# Altium footprint library Components_UNO.PcbLib: 25 footprints (part 2 of 2)
Each footprint in its own frame and in the unit in brackets; x right, y up, seen from the top. Pads: shape width x height; smd on the part's side, far side on the other; paste and mask are expansions set on the pad; w line width, h text height; cw(c..) or ccw(c..) is an arc to the next point about the centre after c.
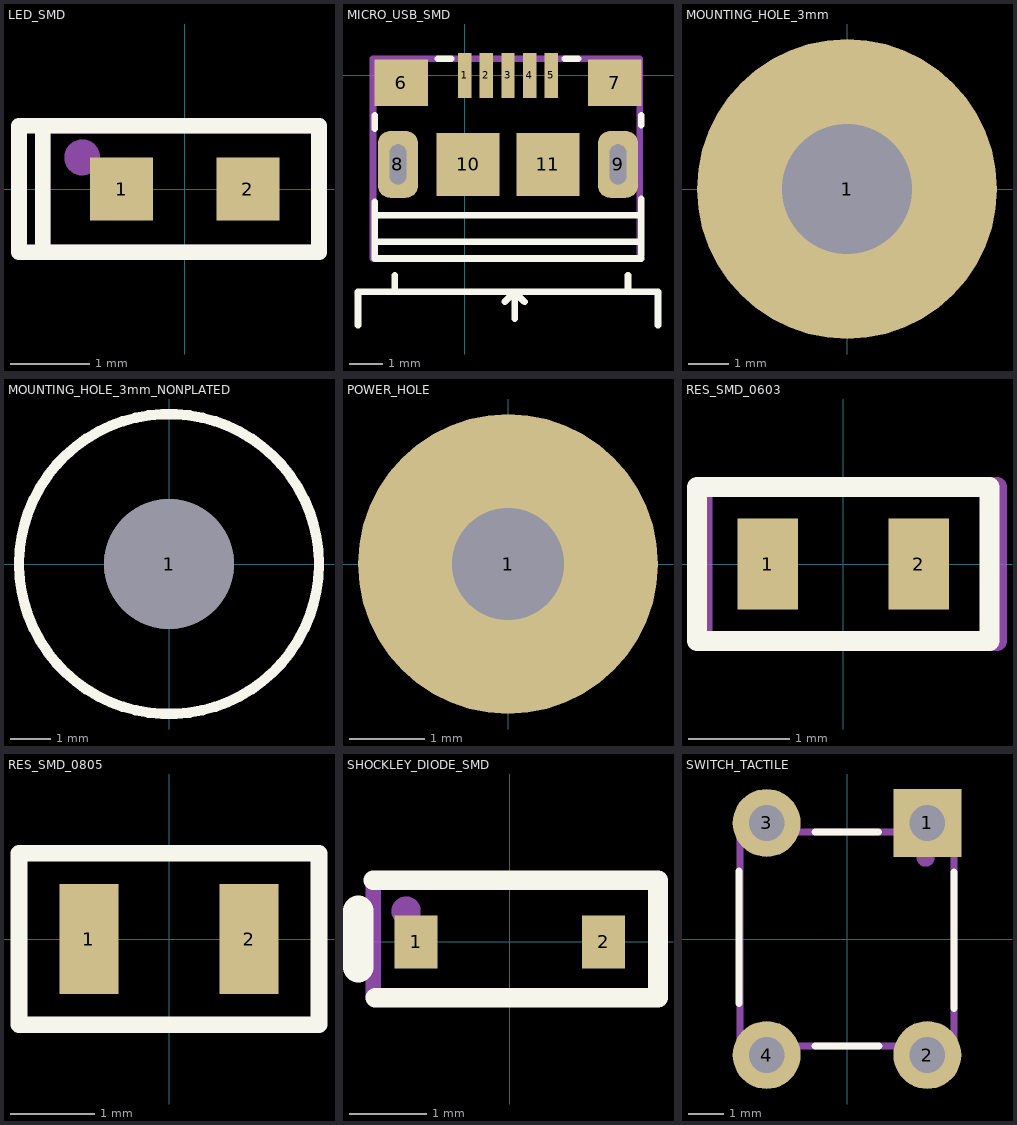
[diagram p1: the footprints below, top view; thin cyan lines are the x and y axes]

## LED_SMD [mm]
pads (2):
  rect 0.8x0.8 smd: 1(-0.8,0) 2(0.8,0)
Top Overlay:
  lines w0.2: -1.8,-0.8 -2.1,-0.8 -2.1,0.8 -1.8,0.8 ; -1.8,-0.8 -1.8,0 -1.8,0.8 ; -1.8,-0.8 1.7,-0.8 1.7,0.8 -1.8,0.8
Mechanical 29:
  circle w0.254: c-1.3,0.4 r0.1
  lines w0.2: -1.8,-0.8 1.7,-0.8 1.7,0.8 -1.8,0.8 -1.8,-0.8
  text "'.Designator'" at -0.9,-0.5 h0.8
3D body "ALSRobot-LED0603(G).STEP": height 0.6, standoff 0, extent -0.91,-0.4 0.71,0.4

## MICRO_USB_SMD [mm]
pads (11):
  rect 0.4x1.35 smd mask+0.05: 1(0,0) 2(0.65,0) 3(1.3,0) 4(1.95,0) 5(2.6,0)
  rect 1.6x1.4 smd: 6(-1.9,-0.225) 7(4.5,-0.225)
  rrect60% 1.2x2 hole 0.5 slot 1.2 at 90 deg: 8(-2,-2.675) 9(4.6,-2.675)
  rect 1.9x1.9 smd: 10(0.1,-2.675) 11(2.5,-2.675)
Top Overlay:
  lines w0.2: -3.2,-7.5 -3.2,-6.5 5.8,-6.5 5.8,-7.5 ; -2.7,-5 5.2,-5 ; -2.7,-4.2 5.3,-4.2 ; -2.7,-3.8 -2.7,-5.5 5.3,-5.5 ; -2.7,-1.6 -2.7,-1.2 ; -2.1,-6.5 -2.1,-6 ; -0.8,0.5 -0.4,0.5 ; 1.2,-6.8 1.5,-6.5 ; 1.5,-7.3 1.5,-6.5 ; 1.8,-6.8 1.5,-6.5 ; 3,0.5 3.4,0.5 ; 4.9,-6.5 4.9,-6 ; 5.3,-5.4 5.3,-3.7 ; 5.3,-1.5 5.3,-1.2
Mechanical 29:
  lines w0.2: -2.75,-5.5 5.25,-5.5 5.25,0.5 -2.75,0.5 -2.75,-5.5
  text "'.Designator'" at -1.25,-3.25 h1.52
3D body "10118193-0001lfc.stp": height 2.78, standoff -0.82, extent -2.629,-5.3 5.228,0.361

## MOUNTING_HOLE_3mm [mm]
pads (1):
  round 7.4 hole 3.2: 1(0,0)

## MOUNTING_HOLE_3mm_NONPLATED [mm]
pads (1):
  round 3.2 hole 3.2 unplated: 1(0,0)
Top Overlay:
  circle w0.254: c0,0 r3.7

## POWER_HOLE [mm]
pads (1):
  round 4 hole 1.5: 1(0,0)

## RES_SMD_0603 [mm]
pads (2):
  rect 0.6x0.9 smd: 1(-0.75,0) 2(0.75,0)
Top Overlay:
  lines w0.2: -1.449,-0.762 1.449,-0.762 1.449,0.762 -1.449,0.762 -1.449,0 -1.449,-0.762
Mechanical 29:
  lines w0.2: -1.397,-0.762 1.524,-0.762 1.524,0.762 -1.397,0.762 -1.397,-0.762
  text "'.Designator'" at -1.143,-0.508 h1
3D body "R0603.step": height 0.8, standoff 0, extent -0.8,-0.381 0.8,0.459

## RES_SMD_0805 [mm]
pads (2):
  rect 0.7x1.3 smd: 1(-0.95,0) 2(0.95,0)
Top Overlay:
  lines w0.2: -1.778,-1.016 1.778,-1.016 1.778,1.016 -1.778,1.016 -1.778,-1.016
3D body "CircuitWorks-RC0805.STEP": height 0.6, standoff 0, extent -1,-0.625 1,0.625

## SHOCKLEY_DIODE_SMD [mil]
pads (2):
  rect 22x27 smd: 1(-48,0) 2(48,0)
Top Overlay:
  lines w10: -69.88,31.5 75.79,31.5 75.79,-28.54 -68.9,-28.54
  lines w15.75: -77.76,-12.8 -77.76,15.75
Mechanical 29:
  circle w7.87: c-53.15,15.75 r3.55
  lines w7.87: -69.88,-27.56 75.79,-27.56 75.79,31.5 -69.88,31.5 -69.88,-27.56
3D body "User Library-SOD-323F.STEP": height 33.1, standoff -1.33, extent -53.15,-26.57 53.15,26.58

## SWITCH_TACTILE [mm]
pads (4):
  rect 1.9x1.9 hole 1: 1(2.25,3.25)
  round 1.9 hole 1: 2(2.25,-3.25) 3(-2.25,3.25) 4(-2.25,-3.25)
Top Overlay:
  lines w0.2: -3.025,-1.8 -3.025,1.9 ; -0.9,-3 0.9,-3 ; -0.9,3 0.875,3 ; 3,-1.95 3,1.875
Mechanical 29:
  circle w0.3: c2.2,2.275 r0.1
  lines w0.2: -0.9,3 0.975,3 ; 0.975,3 2.975,3 3,2.975 3,1.875 3,-1.875 3,-2.975 2.975,-3 0.975,-3 -0.9,-3 -3,-3 -3,-1.825 -3,1.925 -3,2.95 -2.95,3 0.975,3
  text "'.Designator'" at -1.9,-0.8 h1.52
3D body "User Library-FSM4JLH(1825910-5).STEP": height 5.2, standoff -3.31, extent -2.975,-3.899 3.015,3.899